# EAGLE library part DRV8873SPWPR (library DRV8873SPWPR)
Motor / Motion / Ignition Controllers & Drivers 10A H-Bridge Motor Driver with Integrated Current Sensing and Current Sense Output Source: Datasheet <http://www.ti.com/lit/ds/symlink/drv8873.pdf>
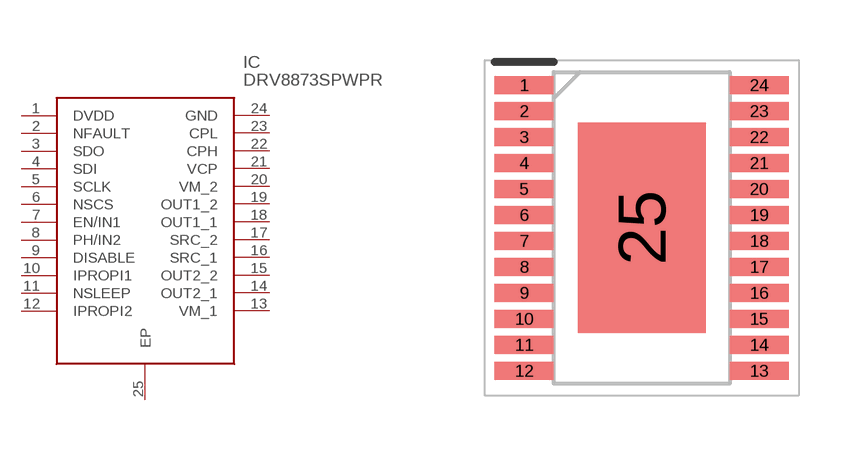
[diagram p0: symbol with the pads of SOP65P640X120-25N; footprint SOP65P640X120-25N]

Designator prefix IC

## DRV8873SPWPR (Description: Motor / Motion / Ignition Controllers & Drivers 10A H-Bridge Motor Driver with Integrated Current Sensing and Current Sense Output; Height: 1.2mm; Manufacturer_Name: Texas Instruments; Manufacturer_Part_Number: DRV8873SPWPR; Mouser_Part_Number: 595-DRV8873SPWPR; Mouser_Price-Stock: https://www.mouser.co.uk/ProductDetail/Texas-Instruments/DRV8873SPWPR?qs=0lSvoLzn4L%2FOilSh2RhZEg%3D%3D)  [SOP65P640X120-25N]
1  DVDD
2  NFAULT
3  SDO
4  SDI
5  SCLK
6  NSCS
7  EN/IN1
8  PH/IN2
9  DISABLE
10  IPROPI1
11  NSLEEP
12  IPROPI2
13  VM_1
14  OUT2_1
15  OUT2_2
16  SRC_1
17  SRC_2
18  OUT1_1
19  OUT1_2
20  VM_2
21  VCP
22  CPH
23  CPL
24  GND
25  EP

## Footprint SOP65P640X120-25N (pad centres in mm)
PWP (R-PDSO-G24)_1
smd 1.475 x 0.45: 1 -2.938,3.575; 2 -2.938,2.925; 3 -2.938,2.275; 4 -2.938,1.625; 5 -2.938,0.975; 6 -2.938,0.325; 7 -2.938,-0.325; 8 -2.938,-0.975; 9 -2.938,-1.625; 10 -2.938,-2.275; 11 -2.938,-2.925; 12 -2.938,-3.575; 13 2.938,-3.575; 14 2.938,-2.925; 15 2.938,-2.275; 16 2.938,-1.625; 17 2.938,-0.975; 18 2.938,-0.325; 19 2.938,0.325; 20 2.938,0.975; 21 2.938,1.625; 22 2.938,2.275; 23 2.938,2.925; 24 2.938,3.575
smd 3.2 x 5.26: 25 0,0